# EAGLE library part TOTX1950A_F_ (library TOTX1950A_F_)
Fiber Optic Transmitters, Receivers, Transceivers 650 nm LED OPTICAL TRANSMN MOD Source: Datasheet
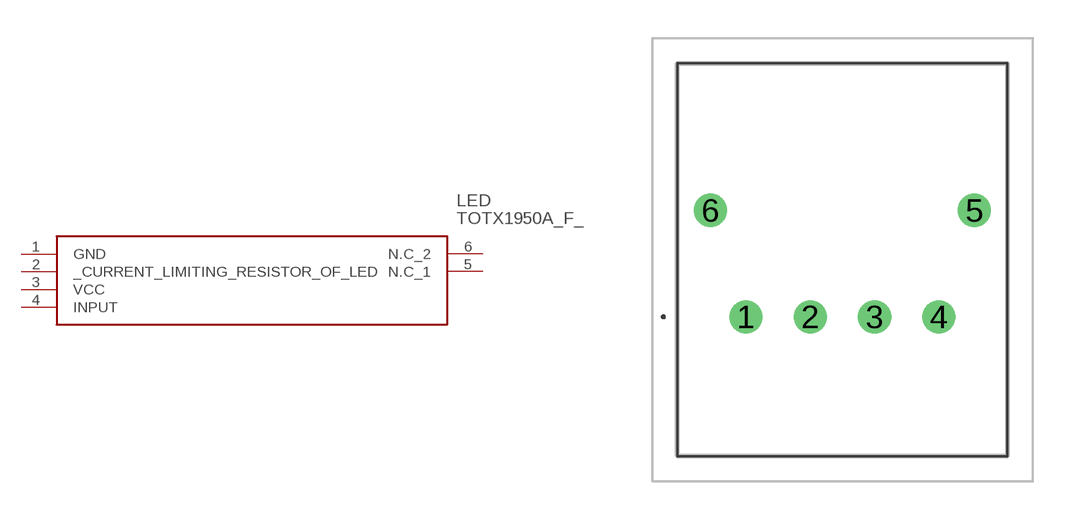
[diagram p0: symbol with the pads of TOTX1950AF; footprint TOTX1950AF]

Designator prefix LED

## TOTX1950A_F_ (Description: Fiber Optic Transmitters, Receivers, Transceivers 650 nm LED OPTICAL TRANSMN MOD; Height: 8.8mm; Manufacturer_Name: Toshiba; Manufacturer_Part_Number: TOTX1950A(F); Mouser_Part_Number: 757-TOTX1950AF; Mouser_Price-Stock: https://www.mouser.co.uk/ProductDetail/Toshiba/TOTX1950AF?qs=gev7jUp%252BQ%252BhDjDGaeAaJXw%3D%3D)  [TOTX1950AF]
1  GND
2  _CURRENT_LIMITING_RESISTOR_OF_LED
3  VCC
4  INPUT
5  N.C_1
6  N.C_2

## Footprint TOTX1950AF (pad centres in mm)
TOTX1950A(F)-1
drill 0.76 pad 1.303: 1 0,0; 2 2.54,0; 3 5.08,0; 4 7.62,0
drill 0.8 pad 1.3: 5 9.01,4.2; 6 -1.39,4.2